# Altium footprint library GN-1846-A-V2.PcbLib: 33 footprints (part 1 of 3)
Each footprint in its own frame and in the unit in brackets; x right, y up, seen from the top. Pads: shape width x height; smd on the part's side, far side on the other; paste and mask are expansions set on the pad; w line width, h text height; cw(c..) or ccw(c..) is an arc to the next point about the centre after c.
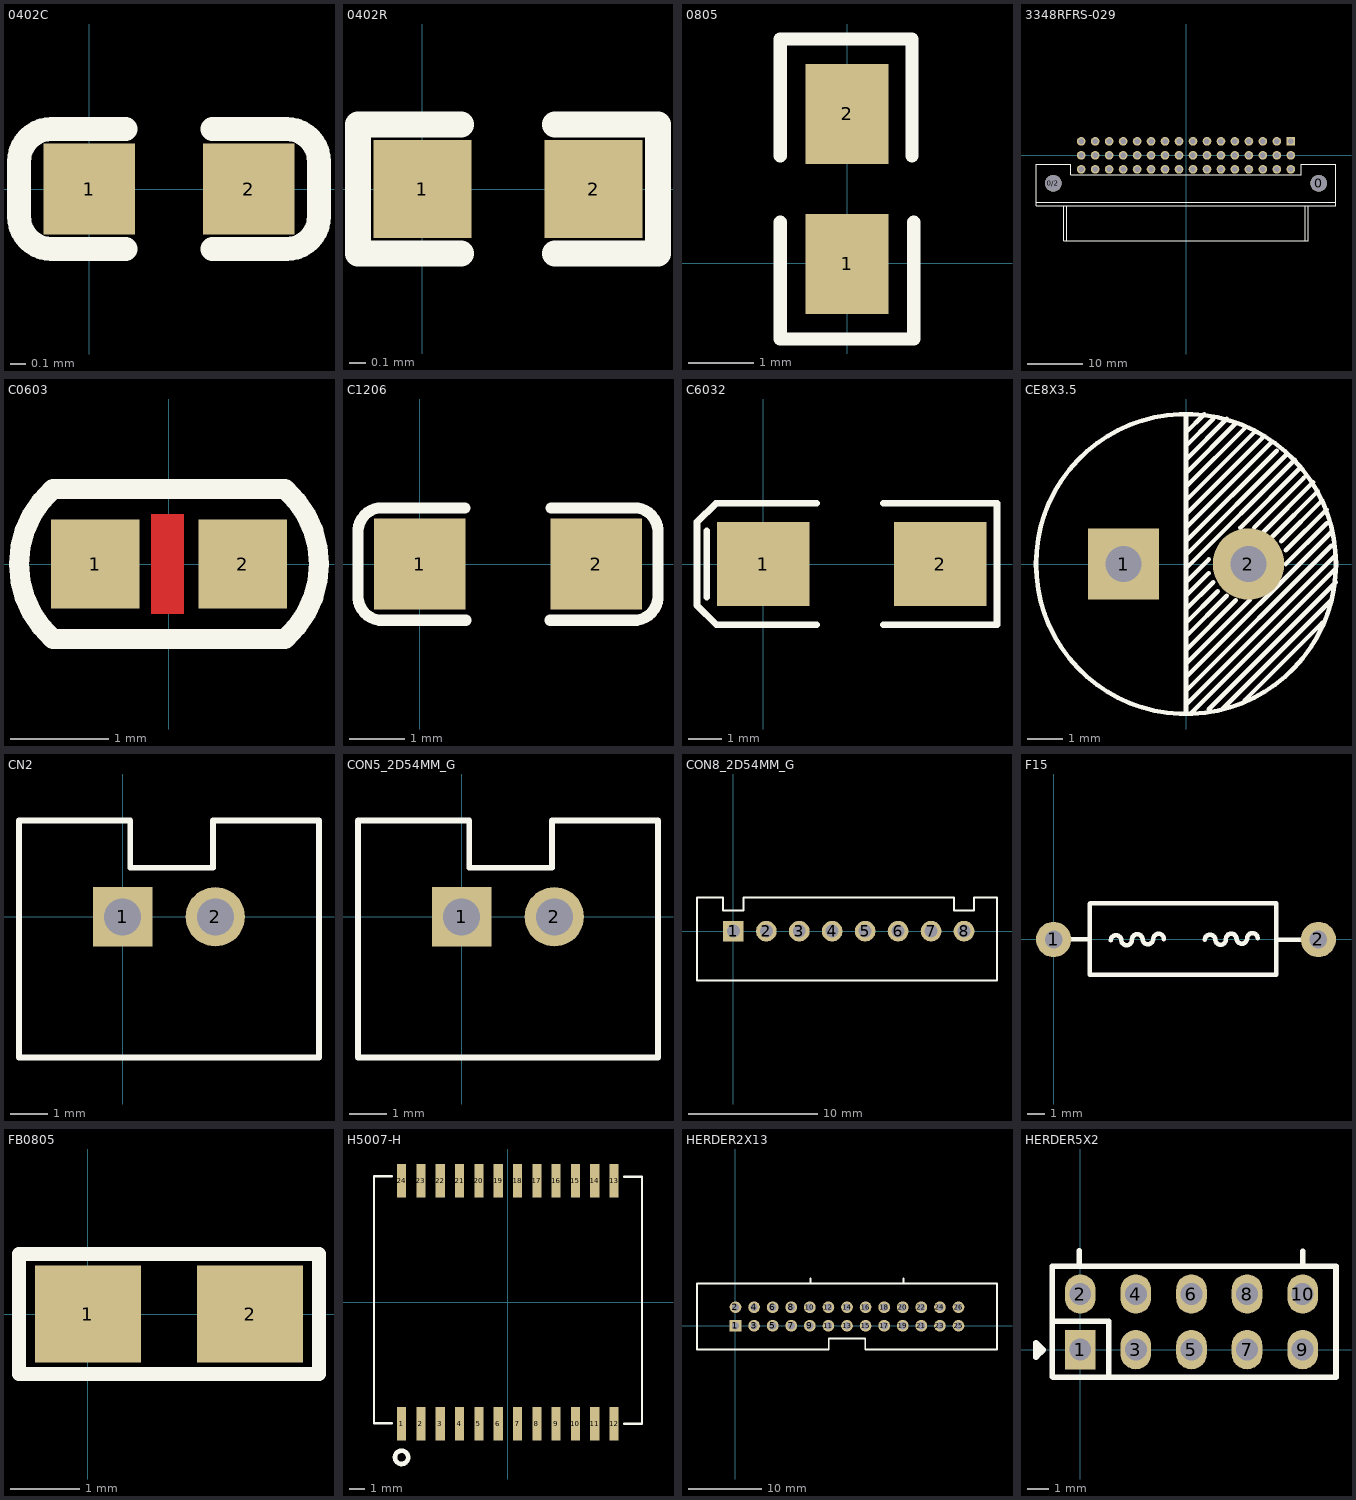
[diagram p0: the footprints below, top view; thin cyan lines are the x and y axes]

## 0402C [mil]
pads (2):
  rect 23x23 smd: 1(0,0) 2(40,0)
Top Overlay:
  lines w6: 9.05,-15.08 -9.17,-15.08 -9.53,-15.08 cw(c-9.53,-6.89) -17.72,-6.89 -17.72,6.89 cw(c-9.53,6.89) -9.53,15.08 -9.17,15.08 9.05,15.08 ; 30.95,-15.08 49.17,-15.08 49.53,-15.08 ccw(c49.53,-6.89) 57.72,-6.89 57.72,6.89 ccw(c49.53,6.89) 49.53,15.08 49.17,15.08 30.95,15.08

## 0402R [mil]
pads (2):
  rect 23x23 smd: 1(0,0) 2(40,0)
Top Overlay:
  lines w6: 9.06,-15.08 -15.08,-15.08 -15.08,15.08 9.06,15.08 ; 30.94,-15.08 55.08,-15.08 55.08,15.08 30.94,15.08

## 0805 [mil]
pads (2):
  rect 50x60 smd: 1(0,-0.32) 2(0,89.69)
Top Overlay:
  lines w8: -40,24.68 -40,-45.31 40,-45.31 40,24.68 ; -40,64.69 -40,134.69 39,134.69 39,64.69

## 3348RFRS-029 [mil]
pads (50):
  round 118.11 / inner round 60 / far side round 60 hole 118.11: 0(948.82,-200) 0/2(-948.82,-200)
  round 62 / inner round 60 / far side round 60 hole 39.37: A1(750,-100) A2(650,-100) A3(550,-100) A4(450,-100) A5(350,-100) A6(250,-100) A7(150,-100) A8(50,-100) A9(-50,-100) A10(-150,-100) A11(-250,-100) A12(-350,-100) A13(-450,-100) A14(-550,-100) A15(-650,-100) A16(-750,-100) B1(750,0) B2(650,0) B3(550,0) B4(450,0) B5(350,0) B6(250,0) B7(150,0) B8(50,0) B9(-50,0) B10(-150,0) B11(-250,0) B12(-350,0) B13(-450,0) B14(-550,0) B15(-650,0) B16(-750,0) C2(650,100) C3(550,100) C4(450,100) C5(350,100) C6(250,100) C7(150,100) C8(50,100) C9(-50,100) C10(-150,100) C11(-250,100) C12(-350,100) C13(-450,100) C14(-550,100) C15(-650,100) C16(-750,100)
  rect 62x62 / inner round 60 / far side round 60 hole 39.37: C1(750,100)
Top Overlay:
  lines w8: -1072.83,-335.04 1072.83,-335.04 ; -874.02,-359.84 -874.02,-611.81 874.02,-611.81 874.02,-359.84 ; -852.36,-611.81 -852.36,-359.84 ; 852.36,-611.81 852.36,-359.84 ; -1072.83,-359.84 1072.83,-359.84 1072.83,-64.96 824.8,-64.96 824.8,-136.81 -824.8,-136.81 -824.8,-64.96 -1072.83,-64.96 -1072.83,-359.84

## C0603 [mm]
pads (2):
  rect 0.9x0.9 smd: 1(-0.75,0) 2(0.75,0)
Top Layer:
  pour cut-out: -0.178,0.508 0.152,0.508 0.152,-0.508 -0.178,-0.508
Top Overlay:
  lines w0.203: -1.181,-0.762 cw(c-0.507,0) -1.181,0.762 1.181,0.762 cw(c0.509,0) 1.181,-0.762 -1.181,-0.762

## C1206 [mil]
pads (2):
  rect 65x65 smd: 1(0,0) 2(126,0)
Top Overlay:
  lines w8: -44,24.71 cw(c-27.07,23.23) -29.86,40 32.14,40 ; -44,25 -44,-24.5 ccw(c-27.07,-23.02) -29.86,-39.79 ; -29,-40 33,-40 ; 93,-40 155,-40 ; 93.86,40 155.86,40 cw(c153.06,23.23) 170,24.71 ; 155.86,-39.79 ccw(c153.06,-23.02) 170,-24.5 170,25

## C6032 [mil]
pads (2):
  rect 110x100 smd: 1(0,0) 2(210,0)
Top Overlay:
  lines w8: -67.06,-39.37 -67.06,39.37 ; 63.36,-72 -55.91,-72 -78.74,-49.17 -78.74,50.01 -56.31,72 63.36,72 ; 142.36,-72 277.36,-72 277.36,72 142.36,72

## CE8X3.5 [mm]
pads (2):
  rect 2x2 / inner round 1.524 / far side round 1.524 hole 1: 1(-1.75,0)
  round 2 / inner round 1.524 / far side round 1.524 hole 1: 2(1.75,0)
Top Overlay:
  circle w0.127: c0,0 r4.2
  lines w0.127: 0,-4.191 0,4.191 ; 0,-3.937 4.191,0.254 ; 0,-3.556 4.064,0.508 ; 0,-3.175 4.064,0.889 ; 0,-2.794 1.778,-1.016 ; 0,-2.413 1.397,-1.016 ; 0,-2.032 1.143,-0.889 ; 0,-1.651 0.889,-0.762 ; 0,-1.27 0.762,-0.508 ; 0,-1.143 0,1.143 ; 0,-0.889 0.635,-0.254 ; 0,-0.508 0.635,0.127 ; 0,-0.127 3.048,2.921 ; 0,0.254 2.794,3.048 ; 0,0.635 2.54,3.175 ; 0,1.016 2.413,3.429 ; 0,1.397 2.159,3.556 ; 0,1.778 1.905,3.683 ; 0,2.159 1.651,3.81 ; 0,2.54 1.397,3.937 ; 0,2.921 1.143,4.064 ; 0,3.302 0.762,4.064 ; 0,3.683 0.508,4.191 ; 0.127,-4.191 4.191,-0.127 ; 0.635,-4.064 4.191,-0.508 ; 1.016,-4.064 4.064,-1.016 ; 1.524,1.016 3.175,2.667 ; 1.651,-3.81 3.81,-1.651 ; 1.905,1.016 3.302,2.413 ; 2.159,0.889 3.556,2.286 ; 2.413,0.762 3.683,2.032 ; 2.667,0.635 3.81,1.778 ; 2.794,0 3.937,1.143 ; 2.794,0.381 3.937,1.524

## CN2 [mm]
pads (2):
  rect 1.6x1.6 / inner round 1.524 / far side round 1.524 hole 1: 1(0,0)
  round 1.6 / inner round 1.524 / far side round 1.524 hole 1: 2(2.5,0)
Top Overlay:
  lines w0.152: -2.8,-3.8 -2.8,2.6 0.203,2.6 0.203,1.321 2.438,1.321 2.438,2.6 5.3,2.6 5.3,-3.8 -2.8,-3.8

## CON5_2D54MM_G [mm]
pads (2):
  rect 1.6x1.6 / inner round 1.524 / far side round 1.524 hole 1: 1(0,0)
  round 1.6 / inner round 1.524 / far side round 1.524 hole 1: 2(2.5,0)
Top Overlay:
  lines w0.152: -2.8,-3.8 5.3,-3.8 5.3,2.6 2.438,2.6 2.438,1.321 0.203,1.321 0.203,2.6 -2.8,2.6 -2.8,-3.8

## CON8_2D54MM_G [mm]
pads (8):
  rect 1.6x1.6 / inner round 1.524 / far side round 1.524 hole 1: 1(0,0)
  round 1.6 / inner round 1.524 / far side round 1.524 hole 1: 2(2.54,0) 3(5.08,0) 4(7.62,0) 5(10.16,0) 6(12.7,0) 7(15.24,0) 8(17.78,0)
Top Overlay:
  lines w0.152: -2.8,-3.8 -2.8,2.6 -0.8,2.6 -0.8,1.6 0.8,1.6 0.8,2.6 17.018,2.6 17.018,1.6 18.542,1.6 18.542,2.6 20.32,2.6 20.32,-3.8 -2.8,-3.8

## F15 [mm]
pads (2):
  round 2 hole 1: 1(0,0) 2(15,0)
Top Overlay:
  lines w0.254: 0.025,0 2.032,0 ; 2.057,2.032 2.057,-2.007 12.624,-2.007 12.624,2.057 2.083,2.057 ; 3.236,-0.06 cw(c3.536,-0.06) 3.836,-0.06 ; 3.836,-0.03 ccw(c4.136,-0.03) 4.436,-0.03 ; 4.437,0 cw(c4.737,0) 5.037,0 ; 5.038,0.03 ccw(c5.338,0.03) 5.638,0.03 ; 5.648,0.02 cw(c5.948,0.02) 6.248,0.02 ; 8.562,-0.03 cw(c8.862,-0.03) 9.162,-0.03 ; 9.162,0 ccw(c9.462,0) 9.762,0 ; 9.762,0.03 cw(c10.062,0.03) 10.362,0.03 ; 10.363,0.06 ccw(c10.663,0.06) 10.963,0.06 cw(c11.263,0.06) 11.563,0.06 ; 12.675,-0.025 14.503,-0.025

## FB0805 [mil]
pads (2):
  rect 60x55 smd: 1(0,0) 2(92,0)
Top Overlay:
  lines w8: -39,-34 30,-34 62,-34 131,-34 131,34 62,34 30,34 -39,34 -39,-34

## H5007-H [mm]
pads (24):
  rect 0.6x2.2 smd: 1(-6.985,-8) 2(-5.715,-8) 3(-4.445,-8) 4(-3.175,-8) 5(-1.905,-8) 6(-0.635,-8) 7(0.635,-8) 8(1.905,-8) 9(3.175,-8) 10(4.445,-8) 11(5.715,-8) 12(6.985,-8) 13(6.985,8) 14(5.715,8) 15(4.445,8) 16(3.175,8) 17(1.905,8) 18(0.635,8) 19(-0.635,8) 20(-1.905,8) 21(-3.175,8) 22(-4.445,8) 23(-5.715,8) 24(-6.985,8)
Top Overlay:
  circle w0.305: c-6.992,-10.198 r0.437
  lines w0.152: -7.628,-7.954 -8.8,-7.954 -8.8,8.3 -7.628,8.3 ; 7.645,-7.992 8.818,-7.992 8.818,8.262 7.645,8.262

## HERDER2X13 [mm]
pads (26):
  rect 1.6x1.6 / inner round 1.524 / far side round 1.524 hole 1: 1(0,0)
  round 1.6 / inner round 1.524 / far side round 1.524 hole 1: 2(0,2.54) 3(2.54,0) 4(2.54,2.54) 5(5.08,0) 6(5.08,2.54) 7(7.62,0) 8(7.62,2.54) 9(10.16,0) 10(10.16,2.54) 11(12.7,0) 12(12.7,2.54) 13(15.24,0) 14(15.24,2.54) 15(17.78,0) 16(17.78,2.54) 17(20.32,0) 18(20.32,2.54) 19(22.86,0) 20(22.86,2.54) 21(25.4,0) 22(25.4,2.54) 23(27.94,0) 24(27.94,2.54) 25(30.48,0) 26(30.48,2.54)
Top Overlay:
  lines w0.254: 10.24,5.77 10.24,6.456 ; 22.94,5.77 22.94,6.456 ; -5.26,-3.23 12.74,-3.23 12.74,-1.73 17.74,-1.73 17.74,-3.23 35.74,-3.23 35.74,5.77 -5.26,5.77 -5.26,-3.23

## HERDER5X2 [mm]
pads (10):
  rect 1.4x1.8 / inner round 1.524 / far side round 1.524 hole 1: 1(0,0)
  oval 1.4x1.8 / inner round 1.524 / far side round 1.524 hole 1: 2(0,2.54) 3(2.54,0) 4(2.54,2.54) 5(5.08,0) 6(5.08,2.54) 7(7.62,0) 8(7.62,2.54) 9(10.16,0) 10(10.16,2.54)
Top Overlay:
  lines w0.254: -1.92,-0.192 -1.92,0.168 ; -1.27,1.295 1.295,1.295 1.295,-1.27 ; -0.508,-1.27 11.684,-1.27 11.684,3.81 -1.27,3.81 -1.27,-0.508 -1.27,-1.245 -1.245,-1.27 -0.102,-1.27 ; -0.05,3.837 -0.05,4.523 ; 10.163,3.812 10.163,4.498 ; -1.692,-0.012 -2.022,-0.343 -2.022,-0.012 -1.819,-0.091 -1.819,0.062 -1.692,-0.012 ; -1.692,-0.012 -2.022,0.318 -2.022,-0.292 -1.971,-0.292 -1.692,-0.012